# Altium footprint library NKK_Switches_Toggle_Footprints.PcbLib: 1 footprints
Each footprint in its own frame and in the unit in brackets; x right, y up, seen from the top. Pads: shape width x height; smd on the part's side, far side on the other; paste and mask are expansions set on the pad; w line width, h text height; cw(c..) or ccw(c..) is an arc to the next point about the centre after c.
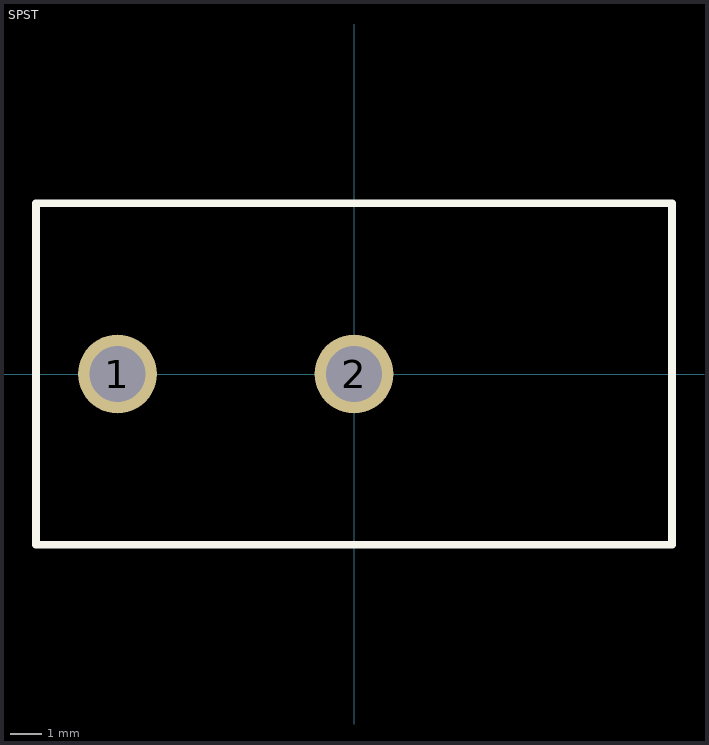
[diagram p0: the footprint, top view; thin cyan lines are the x and y axes]

## SPST [mil]
pads (2):
  round 100 hole 71: 1(-300,0) 2(0,0)
Top Overlay:
  lines w10: -403.5,-216.5 -403.5,216.5 403.5,216.5 403.5,-216.5 -403.5,-216.5